# Altium integrated library FIT_TCM.IntLib: 99 symbols (part 1 of 3)
Pins are listed as number, name and electrical type; pins without a type are passive.

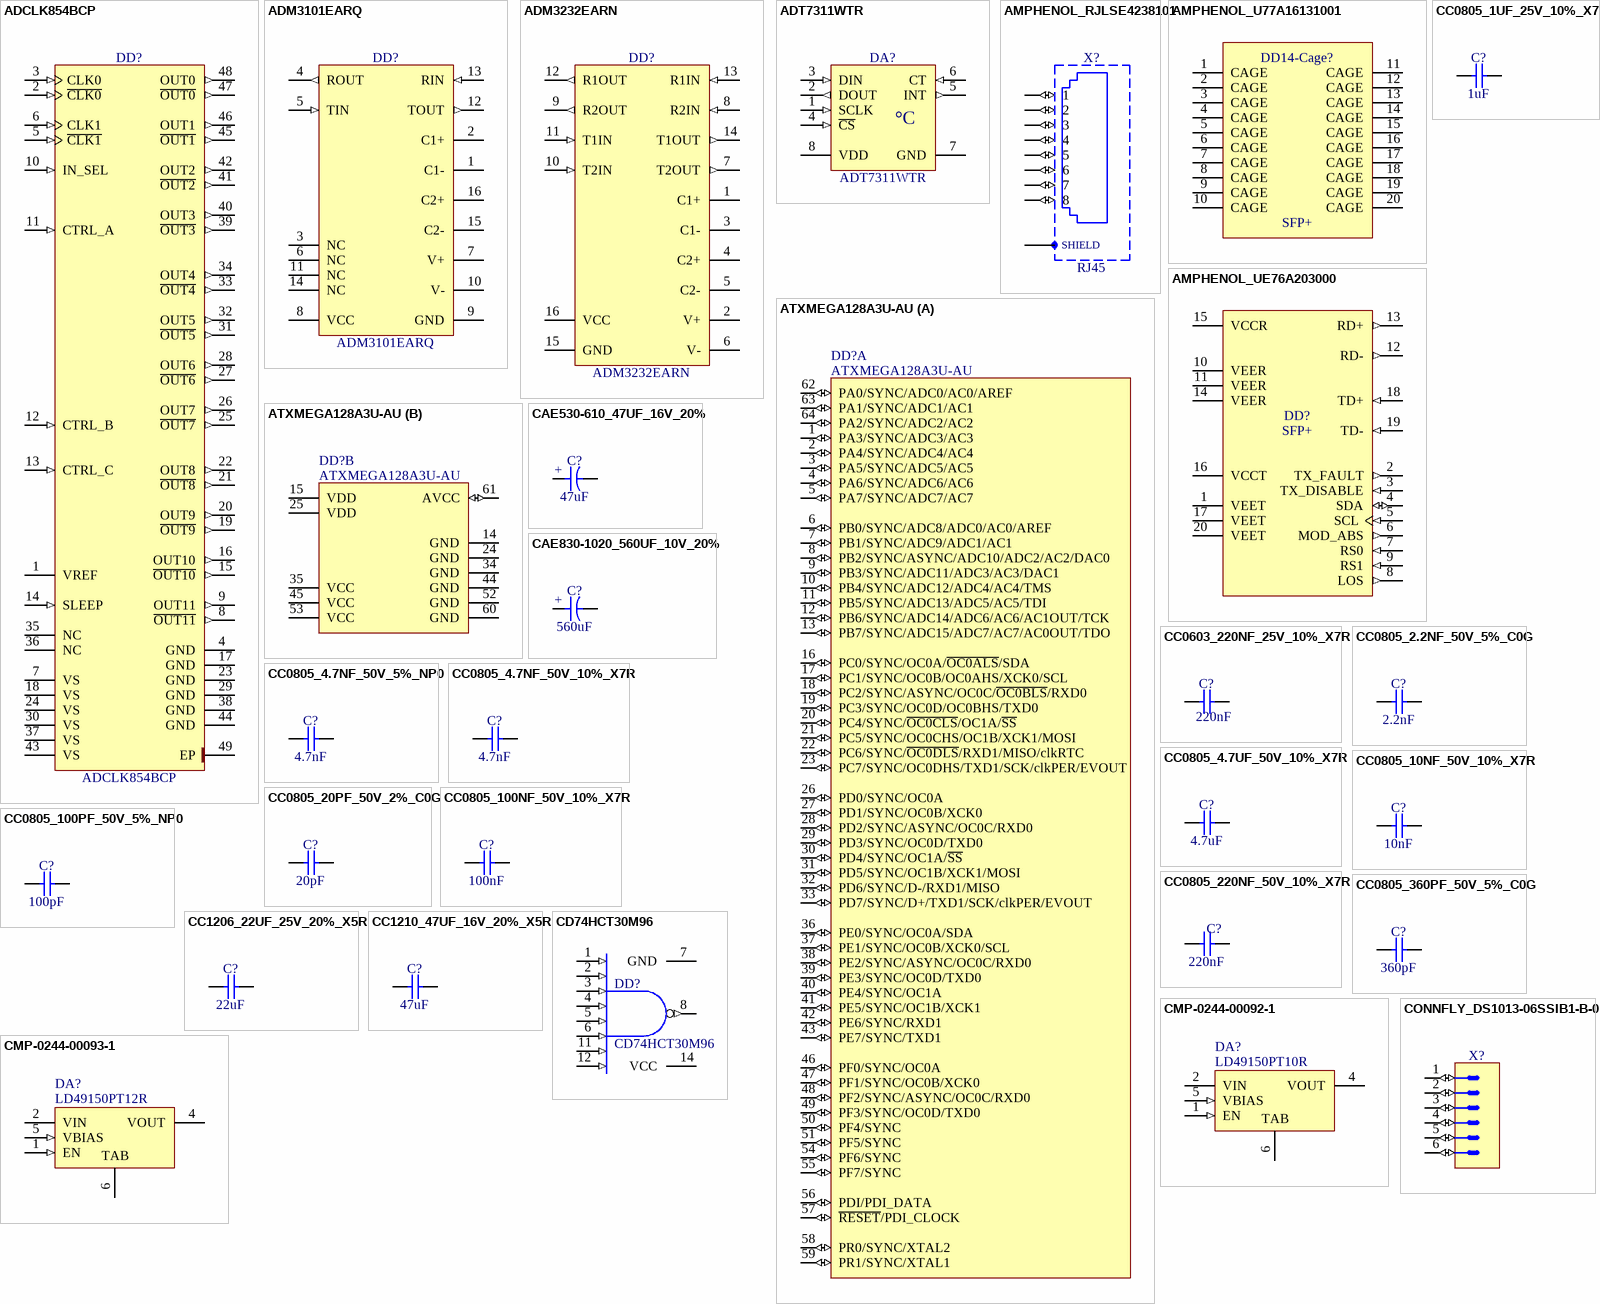
[diagram p0: symbols ADCLK854BCP to CONNFLY_DS1013-06SSIB1-B-0]

## ADCLK854BCP
designator DD?
1.8 V, 6 LVDS/12 CMOS Outputs Low Power Clock Fanout Buffer; Manufacturer: ANALOG DEVICES; PressFit: No; Bonding: No; Part Number: ADCLK854BCP; Component Kind: Standard; Component Type: Standard; Device: ADCLK854BCP; Footprint: QFN50P700X700X80-49N-S290; PackageDescription: QFN, 0.50mm Pitch, Square; 48 Pin, 7.00mm L X 7.00mm W X 0.80mm H body (w/Thermal Tab 2.9 x 2.9mm), IPC Medium Density; Part Description: 1.8 V, 6 LVDS/12 CMOS Outputs Low Power Clock Fanout Buffer; Manufacturer Part Number: ADCLK854BCP; Pin Count: 49; Case: QFN48; Mounted: Yes; Socket: No; SMD: Yes; Sense: No; ComponentHeight: 0.8mm; Author: CERN DEM HF; HelpURL: \\cern.ch\dfs\Applications\Altium\Datasheets\ADCLK854BCP.pdf; CreateDate: 24.05.2024; LatestRevisionDate: 24.05.2024
footprint QFN50P700X700X80-49N-S290
pins: 1 VREF (power), 2 ~{CLK0} (in), 3 CLK0 (in), 4 GND (power), 5 ~{CLK1} (in), 6 CLK1 (in), 7 VS (power), 8 ~{OUT11} (out), 9 OUT11 (out), 10 IN_SEL (in), 11 CTRL_A (in), 12 CTRL_B (in), 13 CTRL_C (in), 14 SLEEP (in), 15 ~{OUT10} (out), 16 OUT10 (out), 17 GND (power), 18 VS (power), 19 ~{OUT9} (out), 20 OUT9 (out), 21 ~{OUT8} (out), 22 OUT8 (out), 23 GND (power), 24 VS (power), 25 ~{OUT7} (out), 26 OUT7 (out), 27 ~{OUT6} (out), 28 OUT6 (out), 29 GND (power), 30 VS (power), 31 ~{OUT5} (out), 32 OUT5 (out), 33 ~{OUT4} (out), 34 OUT4 (out), 35 NC (power), 36 NC (power), 37 VS (power), 38 GND (power), 39 ~{OUT3} (out), 40 OUT3 (out), 41 ~{OUT2} (out), 42 OUT2 (out), 43 VS (power), 44 GND (power), 45 ~{OUT1} (out), 46 OUT1 (out), 47 ~{OUT0} (out), 48 OUT0 (out), 49 EP (power)

## ADM3101EARQ
designator DD?
±15 kV ESD Protected, 3.3 V Single-Channel RS-232 Line Driver/Receiver; Manufacturer: ANALOG DEVICES; PressFit: No; Bonding: No; Part Number: ADM3101EARQ; Component Kind: Standard; Component Type: Standard; Device: ADM3101EARQ; Footprint: SOP63P600X175-16N; PackageDescription: SOP, 0.635mm Pitch; 16 Pin, 3.9mm W X 4.895mm L X 1.75mm H body, IPC Medium Density; Part Description: ±15 kV ESD Protected, 3.3 V Single-Channel RS-232 Line Driver/Receiver; Manufacturer Part Number: ADM3101EARQ; Pin Count: 16; Case: SSOP16; Mounted: Yes; Socket: No; SMD: Yes; Sense: No; ComponentHeight: 1.75mm; Author: CERN DEM HF; HelpURL: \\cern.ch\dfs\Applications\Altium\Datasheets\ADM3101EARQ.pdf; CreateDate: 08.05.2024; LatestRevisionDate: 08.05.2024
footprint SOP63P600X175-16N
pins: 1 C1-, 2 C1+, 3 NC, 4 ROUT (out), 5 TIN (in), 6 NC (power), 7 V+ (power), 8 VCC (power), 9 GND (power), 10 V- (power), 11 NC (power), 12 TOUT (out), 13 RIN (in), 14 NC (power), 15 C2-, 16 C2+

## ADM3232EARN
designator DD?
±15 kV ESD Protected, 3.3 V, RS-232 Line Driver/Receiver; Manufacturer: ANALOG DEVICES; PressFit: No; Bonding: No; Part Number: ADM3232EARN; Component Kind: Standard; Component Type: Standard; Device: ADM3232EARN; Footprint: SOIC127P1032X265-16N; PackageDescription: SOIC, 1.27mm Pitch; 16 pin, 7.50mm W X 10.4mm L X 2.65mm H body, IPC Medium Density; Part Description: ±15 kV ESD Protected, 3.3 V, RS-232 Line Driver/Receiver; Manufacturer Part Number: ADM3232EARN; Pin Count: 16; Case: SOIC16; Mounted: Yes; Socket: No; SMD: Yes; Sense: No; ComponentHeight: 2.65mm; Author: CERN DEM HF; HelpURL: \\cern.ch\dfs\Applications\Altium\Datasheets\ADM3232EARN.pdf; CreateDate: 24.05.2024; LatestRevisionDate: 24.05.2024
footprint SOIC127P600X175-16N (SOIC 16, Pitch 1.27mm - Body 4x10mm, IPC Medium Density)
pins: 1 C1+, 2 V+ (power), 3 C1-, 4 C2+, 5 C2-, 6 V- (power), 7 T2OUT (out), 8 R2IN (in), 9 R2OUT (out), 10 T2IN (in), 11 T1IN (in), 12 R1OUT (out), 13 R1IN (in), 14 T1OUT (out), 15 GND (power), 16 VCC (power)

## ADT7311WTR
designator DA?
±0.5°C Accurate, 16-Bit Digital SPI Temperature Sensor; Manufacturer: ANALOG DEVICES; PressFit: No; Bonding: No; Part Number: ADT7311WTR; Component Kind: Standard; Component Type: Standard; Device: ADT7311WTR; Footprint: SOIC127P600X175-8N; PackageDescription: SOIC 8, Pitch 1.27mm - Body 4x5mm, IPC Medium Density; Part Description: ±0.5°C Accurate, 16-Bit Digital SPI Temperature Sensor; Manufacturer Part Number: ADT7311WTR; Pin Count: 8; Case: SOIC8; Mounted: Yes; Socket: No; SMD: Yes; Sense: No; ComponentHeight: 1.75mm; HelpURL: \\cern.ch\dfs\Applications\Altium\Datasheets\ADT7311WTR.pdf; Author: CERN DEM HF; CreateDate: 24.05.2024; LatestRevisionDate: 24.05.2024
footprint SOIC127P600X175-8N
pins: 1 SCLK (in), 2 DOUT (out), 3 DIN (in), 4 ~{CS} (in), 5 INT (out), 6 CT (in), 7 GND (power), 8 VDD (power)
text: °C

## AMPHENOL_RJLSE4238101
designator X?, comment RJ45
Connector RJ45 + Shield; Part Number: AMPHENOL_RJLSE4238101; Part Description: 1 Port RJ45 Connector, 8P8C ,  Right Angle Without Leds; Manufacturer: AMPHENOL; Manufacturer Part Number: RJLSE4238101; PressFit: No; Component Kind: Standard; Component Type: Standard; Footprint: AMPHENOL_RJLSE4238101; Pin Count: 9; Family: RJ45; Mounted: Yes; Socket: No; SMD: No; Sense: No; Status: None; ComponentHeight: 11.85mm; HelpURL: \\cern.ch\dfs\Applications\Altium\Datasheets\AMPHENOL_RJLSE4238101.pdf; Author: CERN DEM HF; CreateDate: 07.06.2024; LatestRevisionDate: 07.06.2024
footprint AMPHENOL_RJLSE4238101
pins: 1 (io), 2 (io), 3 (io), 4 (io), 5 (io), 6 (io), 7 (io), 8 (io), SHIELD

## AMPHENOL_U77A16131001
designator DD14-Cage?, comment SFP+
SFP+ 1x1 Cage (20Pins); Part Number: AMPHENOL_U77A16131001; Part Description: 1x1 Cage For Use with SFP+ Connector (Small Form-factor Pluggable); Manufacturer: AMPHENOL; Manufacturer Part Number: U77A16131001; PressFit: No; Component Kind: Standard; Component Type: Standard; Footprint: AMPHENOL_U77A16131001; Pin Count: 20; Family: SFP+; Mounted: Yes; Socket: No; SMD: No; Sense: No; Status: None; ComponentHeight: 9.7mm; HelpURL: \\cern.ch\dfs\Applications\Altium\Datasheets\AMPHENOL_U77A16131001.pdf; Author: CERN DEM BC; CreateDate: 03.09.2020; LatestRevisionDate: 03.09.2020
footprint AMPHENOL_U77A16131001
pins: 1 CAGE (power), 2 CAGE (power), 3 CAGE (power), 4 CAGE (power), 5 CAGE (power), 6 CAGE (power), 7 CAGE (power), 8 CAGE (power), 9 CAGE (power), 10 CAGE (power), 11 CAGE (power), 12 CAGE (power), 13 CAGE (power), 14 CAGE (power), 15 CAGE (power), 16 CAGE (power), 17 CAGE (power), 18 CAGE (power), 19 CAGE (power), 20 CAGE (power)

## AMPHENOL_UE76A203000
designator DD?, comment SFP+
20 Position SFP+ Connector (Small Form-factor Pluggable); Part Number: AMPHENOL_UE76A203000; Part Description: 20 Position, Pitch 0.8mm SFP+ High Speed Connector Receptacle (Small Form-factor Pluggable); Manufacturer: AMPHENOL; Manufacturer Part Number: UE76A203000; PressFit: No; Component Kind: Standard; Component Type: Standard; Footprint: AMPHENOL_UE76A203000; Pin Count: 20; Family: SFP+; Mounted: Yes; Socket: No; SMD: Yes; Sense: No; Status: None; ComponentHeight: 5.25mm; HelpURL: \\cern.ch\dfs\Applications\Altium\Datasheets\AMPHENOL_UE76A203000.pdf; Author: CERN DEM BC; CreateDate: 04.09.2020; LatestRevisionDate: 04.09.2020
footprint AMPHENOL_UE76A203000
pins: 1 VEET (power), 2 TX_FAULT (out), 3 TX_DISABLE (in), 4 SDA (io), 5 SCL (in), 6 MOD_ABS (out), 7 RS0 (in), 8 LOS (out), 9 RS1 (in), 10 VEER (power), 11 VEER (power), 12 RD- (out), 13 RD+ (out), 14 VEER (power), 15 VCCR (power), 16 VCCT (power), 17 VEET (power), 18 TD+ (in), 19 TD- (in), 20 VEET (power)

## ATXMEGA128A3U-AU
designator DD?
8/16-bit XMEGA A3BU 32MHz Microcontroller With 256KBytes of in-System Self-Programmable Flash; Part Description: 8/16-bit XMEGA A3U 32MHz Microcontroller with 128KBytes of in-System Self-Programmable Flash; Manufacturer: MICROCHIP TECHNOLOGY; PressFit: No; Bonding: No; Part Number: ATXMEGA128A3U-AU; Component Kind: Standard; Component Type: Standard; Device: ATXMEGA128A3U-AU; Footprint: QFP80P1600X1600X120-64N; PackageDescription: QFP, 0.80mm Pitch, Square; 64 Pin, 14.00mm L X 14.00mm W X 1.20mm H body, IPC Medium Density; Manufacturer Part Number: ATXMEGA128A3U-AU; Pin Count: 64; Case: QFP64; Mounted: Yes; Socket: No; SMD: Yes; Sense: No; ComponentHeight: 1.2mm; HelpURL: \\cern.ch\dfs\Applications\Altium\Datasheets\ATXMEGA128A3U-AU.pdf; Author: CERN DEM HF; CreateDate: 24.05.2024; LatestRevisionDate: 24.05.2024
footprint QFP80P1600X1600X120-64N
part A pins: 1 PA3/SYNC/ADC3/AC3 (io), 2 PA4/SYNC/ADC4/AC4 (io), 3 PA5/SYNC/ADC5/AC5 (io), 4 PA6/SYNC/ADC6/AC6 (io), 5 PA7/SYNC/ADC7/AC7 (io), 6 PB0/SYNC/ADC8/ADC0/AC0/AREF (io), 7 PB1/SYNC/ADC9/ADC1/AC1 (io), 8 PB2/SYNC/ASYNC/ADC10/ADC2/AC2/DAC0 (io), 9 PB3/SYNC/ADC11/ADC3/AC3/DAC1 (io), 10 PB4/SYNC/ADC12/ADC4/AC4/TMS (io), 11 PB5/SYNC/ADC13/ADC5/AC5/TDI (io), 12 PB6/SYNC/ADC14/ADC6/AC6/AC1OUT/TCK (io), 13 PB7/SYNC/ADC15/ADC7/AC7/AC0OUT/TDO (io), 16 PC0/SYNC/OC0A/~{OC0ALS}/SDA (io), 17 PC1/SYNC/OC0B/OC0AHS/XCK0/SCL (io), 18 PC2/SYNC/ASYNC/OC0C/~{OC0BLS}/RXD0 (io), 19 PC3/SYNC/OC0D/OC0BHS/TXD0 (io), 20 PC4/SYNC/~{OC0CLS}/OC1A/~{SS} (io), 21 PC5/SYNC/OC0CHS/OC1B/XCK1/MOSI (io), 22 PC6/SYNC/~{OC0DLS}/RXD1/MISO/clkRTC (io), 23 PC7/SYNC/OC0DHS/TXD1/SCK/clkPER/EVOUT (io), 26 PD0/SYNC/OC0A (io), 27 PD1/SYNC/OC0B/XCK0 (io), 28 PD2/SYNC/ASYNC/OC0C/RXD0 (io), 29 PD3/SYNC/OC0D/TXD0 (io), 30 PD4/SYNC/OC1A/~{SS} (io), 31 PD5/SYNC/OC1B/XCK1/MOSI (io), 32 PD6/SYNC/D-/RXD1/MISO (io), 33 PD7/SYNC/D+/TXD1/SCK/clkPER/EVOUT (io), 36 PE0/SYNC/OC0A/SDA (io), 37 PE1/SYNC/OC0B/XCK0/SCL (io), 38 PE2/SYNC/ASYNC/OC0C/RXD0 (io), 39 PE3/SYNC/OC0D/TXD0 (io), 40 PE4/SYNC/OC1A (io), 41 PE5/SYNC/OC1B/XCK1 (io), 42 PE6/SYNC/RXD1 (io), 43 PE7/SYNC/TXD1 (io), 46 PF0/SYNC/OC0A (io), 47 PF1/SYNC/OC0B/XCK0 (io), 48 PF2/SYNC/ASYNC/OC0C/RXD0 (io), 49 PF3/SYNC/OC0D/TXD0 (io), 50 PF4/SYNC (io), 51 PF5/SYNC (io), 54 PF6/SYNC (io), 55 PF7/SYNC (io), 56 PDI/PDI_DATA (io), 57 ~{RESET}/PDI_CLOCK (io), 58 PR0/SYNC/XTAL2 (io), 59 PR1/SYNC/XTAL1 (io), 62 PA0/SYNC/ADC0/AC0/AREF (io), 63 PA1/SYNC/ADC1/AC1 (io), 64 PA2/SYNC/ADC2/AC2 (io)
part B pins: 14 GND (power), 15 VDD (power), 24 GND (power), 25 VDD (power), 34 GND (power), 35 VCC (power), 44 GND (power), 45 VCC (power), 52 GND (power), 53 VCC (power), 60 GND (power), 61 AVCC (io)

## CAE530-610_47UF_16V_20%
designator C?, comment 47uF
Polarised capacitor; Part Number: CAE530-610_47UF_16V_20%; Part Description: Conductive Polymer Hybrid Aluminum Electrolytic Capacitor; Manufacturer: CHEMI-CON; Manufacturer Part Number: HHXD160ARA470ME61G; Voltage: 16V; Tolerance: ±20%; Component Kind: Standard; Component Type: Standard; Footprint: CAPAE530X610N; Pin Count: 2; Value: 47uF; Status: Not Recommended; Case: C; Mounted: Yes; Socket: No; SMD: Yes; Sense: No; ComponentHeight: 6.1mm; HelpURL: \\cern.ch\dfs\Applications\Altium\Datasheets\CAE_CHIMI-CON_HXD.pdf; Author: CERN DEM HF; CreateDate: 15.04.2024; LatestRevisionDate: 15.04.2024
footprint CAPAE530X610N
pins: 1, 2
text: +

## CAE830-1020_560UF_10V_20%
designator C?, comment 560uF
Polarised capacitor; Part Number: CAE830-1020_560UF_10V_20%; Part Description: Aluminum Electrolytic SMT Capacitor; Manufacturer: PANASONIC; Manufacturer Part Number: EEEFH1A561L; Voltage: 10V; Tolerance: ±20%; Component Kind: Standard; Component Type: Standard; Footprint: CAPAE830X1020N; Pin Count: 2; Value: 560uF; Status: Not Recommended; Case: F; Mounted: Yes; Socket: No; SMD: Yes; Sense: No; ComponentHeight: 10.2mm; HelpURL: \\cern.ch\dfs\Applications\Altium\Datasheets\CAE_PANASONIC_FH.pdf; Author: CERN DEM HF; CreateDate: 24.05.2024; LatestRevisionDate: 24.05.2024
footprint CAPAE830X1020N
pins: 1, 2
text: +

## CC0603_220NF_25V_10%_X7R
designator C?, comment 220nF
Non-polarised capacitor; Part Number: CC0603_220NF_25V_10%_X7R; Part Description: SMD Multilayer Chip Ceramic Capacitor; Manufacturer: GENERIC; Manufacturer1 Part Number: C0603C224K3RACTU; Voltage: 25V; TC: X7R; Tolerance: ±10%; Component Kind: Standard; Component Type: Standard; Footprint: CAPC1608X87N; Pin Count: 2; Value: 220nF; Status: Preferred; Manufacturer Part Number: CC0603_220NF_25V_10%_X7R; Case: 0603; Mounted: Yes; Socket: No; SMD: Yes; Sense: No; Manufacturer1 Example: KEMET; Manufacturer1 ComponentHeight: 0.87mm; HelpURL: \\cern.ch\dfs\Applications\Altium\Datasheets\CC0603_X7R_KEMET.pdf; Author: CERN DEM JLC; CreateDate: 29.10.2014; LatestRevisionDate: 29.10.2014
footprint CAPC1608X87N
pins: 1, 2

## CC0805_1UF_25V_10%_X7R
designator C?, comment 1uF
Non-polarised capacitor; Part Number: CC0805_1UF_25V_10%_X7R; Part Description: SMD Multilayer Chip Ceramic Capacitor; Manufacturer: GENERIC; Manufacturer1 Part Number: C0805C105K3RAC; Voltage: 25V; TC: X7R; Tolerance: ±10%; Component Kind: Standard; Component Type: Standard; Footprint: CAPC2012X140N; Pin Count: 2; Value: 1uF; Status: Preferred; Manufacturer Part Number: CC0805_1UF_25V_10%_X7R; Case: 0805; Mounted: Yes; Socket: No; SMD: Yes; Sense: No; Manufacturer1 Example: KEMET; Manufacturer1 ComponentHeight: 1.4mm; HelpURL: \\cern.ch\dfs\Applications\Altium\Datasheets\CC0805_X7R_KEMET.pdf; Author: CERN DEM JLC; CreateDate: 23.03.2009; LatestRevisionDate: 23.03.2009
footprint CAPC2012X140N
pins: 1, 2

## CC0805_2.2NF_50V_5%_C0G
designator C?, comment 2.2nF
Non-polarised capacitor; Part Number: CC0805_2.2NF_50V_5%_C0G; Part Description: SMD Multilayer Chip Ceramic Capacitor; Manufacturer: GENERIC; Manufacturer1 Part Number: C0805C222J5GACTU; Voltage: 50V; TC: C0G/NP0; Tolerance: ±5%; Component Kind: Standard; Component Type: Standard; Footprint: CAPC2013X100N; Pin Count: 2; Value: 2.2nF; Status: None; Manufacturer Part Number: CC0805_2.2NF_50V_5%_C0G; Case: 0805; Mounted: Yes; Socket: No; SMD: Yes; Sense: No; Manufacturer1 Example: KEMET; Manufacturer1 ComponentHeight: 0.88mm; HelpURL: \\cern.ch\dfs\Applications\Altium\Datasheets\CC0805_C0G_KEMET_(Commercial Grade).pdf; Author: CERN DEM MR; CreateDate: 26.01.2016; LatestRevisionDate: 26.01.2016
footprint CAPC2013X100N
pins: 1, 2

## CC0805_4.7NF_50V_5%_NP0
designator C?, comment 4.7nF
Non-polarised capacitor; Part Number: CC0805_4.7NF_50V_5%_NP0; Part Description: SMD Multilayer Chip Ceramic Capacitor; Manufacturer: GENERIC; Manufacturer1 Part Number: GRM2195C1H472JA01; Voltage: 50V; TC: C0G/NP0; Tolerance: ±5%; Component Kind: Standard; Component Type: Standard; Footprint: CAPC2012X95N; Pin Count: 2; Value: 4.7nF; Status: None; Manufacturer Part Number: CC0805_4.7NF_50V_5%_NP0; Case: 0805; Mounted: Yes; Socket: No; SMD: Yes; Sense: No; Manufacturer1 Example: MURATA; Manufacturer1 ComponentHeight: 0.95mm; HelpURL: \\cern.ch\dfs\Applications\Altium\Datasheets\CC0805_MURATA_GRM2195C1H472JA01.pdf; Author: CERN DEM MR; CreateDate: 30.03.2016; LatestRevisionDate: 30.03.2016
footprint CAPC2012X95N
pins: 1, 2

## CC0805_4.7NF_50V_10%_X7R
designator C?, comment 4.7nF
Non-polarised capacitor; Part Number: CC0805_4.7NF_50V_10%_X7R; Part Description: SMD Multilayer Chip Ceramic Capacitor; Manufacturer: GENERIC; Manufacturer1 Part Number: 223858615632; Voltage: 50V; TC: X7R; Tolerance: ±10%; Component Kind: Standard; Component Type: Standard; Footprint: CAPC2012X135N; Pin Count: 2; Value: 4.7nF; Status: Preferred; Manufacturer Part Number: CC0805_4.7NF_50V_10%_X7R; Case: 0805; Mounted: Yes; Socket: No; SMD: Yes; Sense: No; Manufacturer1 Example: PHYCOMP; Manufacturer1 ComponentHeight: 0.94mm; HelpURL: \\cern.ch\dfs\Applications\Altium\Datasheets\CC0805_X7R_PHYCOMP.pdf; Author: CERN DEM JLC; CreateDate: 03.12.2007; LatestRevisionDate: 03.12.2007
footprint CAPC2012X135N
pins: 1, 2

## CC0805_4.7UF_50V_10%_X7R
designator C?, comment 4.7uF
Non-polarised capacitor; Part Number: CC0805_4.7UF_50V_10%_X7R; Part Description: SMD Multilayer Chip Ceramic Capacitor; Manufacturer: GENERIC; Manufacturer1 Part Number: C2012X7R1H475K125; Voltage: 50V; TC: X7R; Tolerance: ±10%; Component Kind: Standard; Component Type: Standard; Footprint: CAPC2012X145N; Pin Count: 2; Value: 4.7uF; Status: Preferred; Manufacturer Part Number: CC0805_4.7UF_50V_10%_X7R; Case: 0805; Mounted: Yes; Socket: No; SMD: Yes; Sense: No; Manufacturer1 Example: TDK; Manufacturer1 ComponentHeight: 1.45mm; HelpURL: \\cern.ch\dfs\Applications\Altium\Datasheets\CC0805_X7R_TDK_C.pdf; Author: CERN DEM JMW; CreateDate: 30.07.2021; LatestRevisionDate: 30.07.2021
footprint CAPC2012X145N
pins: 1, 2

## CC0805_10NF_50V_10%_X7R
designator C?, comment 10nF
Non-polarised capacitor; Part Number: CC0805_10NF_50V_10%_X7R; Part Description: SMD Multilayer Chip Ceramic Capacitor; Manufacturer: GENERIC; Manufacturer1 Part Number: C0805C103K5RACTU; Voltage: 50V; TC: X7R; Tolerance: ±10%; Component Kind: Standard; Component Type: Standard; Footprint: CAPC2012X135N; Pin Count: 2; Value: 10nF; Status: Preferred; Manufacturer Part Number: CC0805_10NF_50V_10%_X7R; Case: 0805; Mounted: Yes; Socket: No; SMD: Yes; Sense: No; Manufacturer1 Example: KEMET; Manufacturer1 ComponentHeight: 0.88mm; HelpURL: \\cern.ch\dfs\Applications\Altium\Datasheets\CC0805_X7R_KEMET.pdf; Author: CERN DEM JLC; CreateDate: 03.12.2007; LatestRevisionDate: 22.04.2015
footprint CAPC2012X135N
pins: 1, 2

## CC0805_20PF_50V_2%_C0G
designator C?, comment 20pF
Non-polarised capacitor; Part Number: CC0805_20PF_50V_2%_C0G; Part Description: SMD Multilayer Chip Ceramic Capacitor; Manufacturer: GENERIC; Manufacturer1 Part Number: CC0805GRNPO9BN200; Voltage: 50V; TC: C0G/NP0; Tolerance: ±2%; Component Kind: Standard; Component Type: Standard; Footprint: CAPC2012X135N; Pin Count: 2; Value: 20pF; Status: None; Manufacturer Part Number: CC0805_20PF_50V_2%_C0G; Case: 0805; Mounted: Yes; Socket: No; SMD: Yes; Sense: No; Manufacturer1 Example: YAGEO PHYCOMP; Manufacturer1 ComponentHeight: 1.45mm; HelpURL: \\cern.ch\dfs\Applications\Altium\Datasheets\CC0805_NP0_YAGEO.pdf; Author: CERN DEM HF; CreateDate: 07.05.2024; LatestRevisionDate: 07.05.2024
footprint CAPC2012X135N
pins: 1, 2

## CC0805_100NF_50V_10%_X7R
designator C?, comment 100nF
Non-polarised capacitor; Part Number: CC0805_100NF_50V_10%_X7R; Part Description: SMD Multilayer Chip Ceramic Capacitor; Manufacturer: GENERIC; Manufacturer1 Part Number: C2012X7R1H104K085; Voltage: 50V; TC: X7R; Tolerance: ±10%; Component Kind: Standard; Component Type: Standard; Footprint: CAPC2012X135N; Pin Count: 2; Value: 100nF; Status: None; Manufacturer Part Number: CC0805_100NF_50V_10%_X7R; Case: 0805; Mounted: Yes; Socket: No; SMD: Yes; Sense: No; Manufacturer1 Example: TDK; Manufacturer1 ComponentHeight: 1mm; HelpURL: \\cern.ch\dfs\Applications\Altium\Datasheets\CC0805_X7R_TDK_C.pdf; Author: CERN DEM JLC; CreateDate: 03.12.2007; LatestRevisionDate: 22.04.2015
footprint CAPC2012X135N
pins: 1, 2

## CC0805_100PF_50V_5%_NP0
designator C?, comment 100pF
Non-polarised capacitor; Part Number: CC0805_100PF_50V_5%_NP0; Part Description: SMD Multilayer Chip Ceramic Capacitor; Manufacturer: GENERIC; Manufacturer1 Part Number: 223886115101; Voltage: 50V; TC: C0G/NP0; Tolerance: ±5%; Component Kind: Standard; Component Type: Standard; Footprint: CAPC2012X135N; Pin Count: 2; Value: 100pF; Status: Preferred; Manufacturer Part Number: CC0805_100PF_50V_5%_NP0; Case: 0805; Mounted: Yes; Socket: No; SMD: Yes; Sense: No; Manufacturer1 Example: PHYCOMP; Manufacturer1 ComponentHeight: 1.35mm; HelpURL: \\cern.ch\dfs\Applications\Altium\Datasheets\CC0805_NP0_PHYCOMP.pdf; Author: CERN DEM JLC; CreateDate: 03.12.2007; LatestRevisionDate: 03.12.2007
footprint CAPC2012X135N
pins: 1, 2

## CC0805_220NF_50V_10%_X7R
designator C?, comment 220nF
Non-polarised capacitor; Part Number: CC0805_220NF_50V_10%_X7R; Part Description: SMD Multilayer Chip Ceramic Capacitor; Manufacturer: GENERIC; Manufacturer1 Part Number: GRM21BR71H224KA01L; Voltage: 50V; TC: X7R; Tolerance: ±10%; Component Kind: Standard; Component Type: Standard; Footprint: CAPC2012X135N; Pin Count: 2; Value: 220nF; Status: Preferred; Manufacturer Part Number: CC0805_220NF_50V_10%_X7R; Case: 0805; Mounted: Yes; Socket: No; SMD: Yes; Sense: No; Manufacturer1 Example: MURATA; Manufacturer1 ComponentHeight: 1.35mm; HelpURL: \\cern.ch\dfs\Applications\Altium\Datasheets\CC0805_X7R_MURATA.pdf; Author: CERN DEM JLC; CreateDate: 03.12.2007; LatestRevisionDate: 03.12.2007
footprint CAPC2012X135N
pins: 1, 2

## CC0805_360PF_50V_5%_C0G
designator C?, comment 360pF
Non-polarised capacitor; Part Number: CC0805_360PF_50V_5%_C0G; Part Description: SMD Multilayer Chip Ceramic Capacitor; Manufacturer: GENERIC; Manufacturer1 Part Number: CC0805JRNPO9BN361; Voltage: 50V; TC: NP0; Tolerance: ±5%; Component Kind: Standard; Component Type: Standard; Footprint: CAPC2013X145N; Pin Count: 2; Value: 360pF; Status: None; Manufacturer Part Number: CC0805_360PF_50V_5%_C0G; Case: 0805; Mounted: Yes; Socket: No; SMD: Yes; Sense: No; Manufacturer1 Example: YAGEO PHYCOMP; Manufacturer1 ComponentHeight: 1.45mm; HelpURL: \\cern.ch\dfs\Applications\Altium\Datasheets\CC0805_NP0_YAGEO.pdf; Author: CERN DEM HF; CreateDate: 30.05.2024; LatestRevisionDate: 30.05.2024
footprint CAPC2013X145N
pins: 1, 2

## CC1206_22UF_25V_20%_X5R
designator C?, comment 22uF
Non-polarised capacitor; Part Number: CC1206_22UF_25V_20%_X5R; Part Description: SMD Multilayer Chip Ceramic Capacitor; Manufacturer: GENERIC; Manufacturer1 Part Number: C3216X5R1E226M160; Voltage: 25V; TC: X5R; Tolerance: ±20%; Component Kind: Standard; Component Type: Standard; Footprint: CAPC3216X180N; Pin Count: 2; Value: 22uF; Status: None; Manufacturer Part Number: CC1206_22UF_25V_20%_X5R; Case: 1206; Mounted: Yes; Socket: No; SMD: Yes; Sense: No; Manufacturer1 Example: TDK; Manufacturer1 ComponentHeight: 1.8mm; HelpURL: \\cern.ch\dfs\Applications\Altium\Datasheets\CC1206_X5R_TDK_C.pdf; Author: CERN DEM WB; CreateDate: 25.07.2018; LatestRevisionDate: 25.07.2018
footprint CAPC3216X180N
pins: 1, 2

## CC1210_47UF_16V_20%_X5R
designator C?, comment 47uF
Non-polarised capacitor; Part Number: CC1210_47UF_16V_20%_X5R; Part Description: SMD Multilayer Chip Ceramic Capacitor; Manufacturer: GENERIC; Manufacturer1 Part Number: EMK325BJ476MM-T; Voltage: 16V; TC: X5R; Tolerance: ±20%; Component Kind: Standard; Component Type: Standard; Footprint: CAPC3225X270N; Pin Count: 2; Value: 47uF; Status: None; Manufacturer Part Number: CC1210_47UF_16V_20%_X5R; Case: 1210; Mounted: Yes; Socket: No; SMD: Yes; Sense: No; Manufacturer1 Example: TAIYO YUDEN; Manufacturer1 ComponentHeight: 2.7mm; HelpURL: \\cern.ch\dfs\Applications\Altium\Datasheets\CC1210_X5R_TAIYO-YUDEN_HIGH-VALUE.pdf; Author: CERN DEM MR; CreateDate: 03.02.2016; LatestRevisionDate: 03.02.2016
footprint CAPC3225X270N
pins: 1, 2

## CD74HCT30M96
designator DD?
8-Input NAND Gate; Manufacturer: TEXAS INSTRUMENTS; PressFit: No; Bonding: No; Part Number: CD74HCT30M96; Component Kind: Standard; Component Type: Standard; Device: CD74HCT30M96; Footprint: SOIC127P600X175-14N; PackageDescription: SOIC 14, Pitch 1.27mm - Body 4x8.75mm, IPC Medium Density; Part Description: 8-Input NAND Gate; Manufacturer Part Number: CD74HCT30M96; Pin Count: 14; Case: SOIC14; Mounted: Yes; Socket: Yes; SMD: Yes; Sense: No; ComponentHeight: 1.75mm; Author: CERN DEM HF; HelpURL: \\cern.ch\dfs\Applications\Altium\Datasheets\CD74HCT30M96.pdf; CreateDate: 31.05.2024; LatestRevisionDate: 31.05.2024
footprint SOIC127P600X175-14N
pins: 1 A (in), 2 B (in), 3 C (in), 4 D (in), 5 E (in), 6 F (in), 7 GND (power), 8 Y (out), 11 G (in), 12 H (in), 14 VCC (power)

## CMP-0244-00092-1
designator DA?, comment LD49150PT10R
1.5 Very Low Drop Voltage Regulator, 1.0V, 5-Pin PPAK, Tape and Reel; ComponentLink1URL: http://www.st.com; ComponentLink2Description: Datasheet; PackageVersion: 1/06/2004; DatasheetVersion: 1/06/2010; PackageDescription: 5-Pin Transistor Outline Package 1.27 mm Pitch, 9.7 mm Lead Span; ComponentLink1Description: Manufacturer URL; ComponentLink2URL: http://www.st.com/internet/com/TECHNICAL_RESOURCES/TECHNICAL_LITERATURE/DATASHEET/CD00157522.pdf; PackageReference: PPAK
footprint PPAK_N (D-PAK, 6-Leads, Body 6.1x6.5mm, Pitch 1.27mm, Lead Span 9.7mm, IPC Medium Density)
footprint PPAK_L (D-PAK, 6-Leads, Body 6.1x6.5mm, Pitch 1.27mm, Lead Span 9.7mm, IPC High Density)
footprint PPAK_M (D-PAK, 6-Leads, Body 6.1x6.5mm, Pitch 1.27mm, Lead Span 9.7mm, IPC Low Density)
pins: 1 EN (in), 2 VIN (power), 4 VOUT (power), 5 VBIAS (in), 6 TAB (power)

## CMP-0244-00093-1
designator DA?, comment LD49150PT12R
1.5 Very Low Drop Voltage Regulator, 1.2V, 5-Pin PPAK, Tape and Reel; ComponentLink2URL: http://www.st.com/internet/com/TECHNICAL_RESOURCES/TECHNICAL_LITERATURE/DATASHEET/CD00157522.pdf; DatasheetVersion: 1/06/2010; ComponentLink1Description: Manufacturer URL; ComponentLink2Description: Datasheet; ComponentLink1URL: http://www.st.com; PackageDescription: 5-Pin Transistor Outline Package 1.27 mm Pitch, 9.7 mm Lead Span; PackageReference: PPAK; PackageVersion: 1/06/2004
footprint PPAK_M (D-PAK, 6-Leads, Body 6.1x6.5mm, Pitch 1.27mm, Lead Span 9.7mm, IPC Low Density)
footprint PPAK_N (D-PAK, 6-Leads, Body 6.1x6.5mm, Pitch 1.27mm, Lead Span 9.7mm, IPC Medium Density)
footprint PPAK_L (D-PAK, 6-Leads, Body 6.1x6.5mm, Pitch 1.27mm, Lead Span 9.7mm, IPC High Density)
pins: 1 EN (in), 2 VIN (power), 4 VOUT (power), 5 VBIAS (in), 6 TAB (power)

## CONNFLY_DS1013-06SSIB1-B-0
designator X?
Connector 6 Male; Part Number: CONNFLY_DS1013-06SSIB1-B-0; Part Description: 6 Contacts, 2.54mm Box Header V/T,R/A & SMT Type; Manufacturer: CONNFLY; Manufacturer Part Number: DS1013-06SSIB1-B-0; PressFit: No; Component Kind: Standard; Component Type: Standard; Footprint: CONNFLY_DS1013-06SSIB1-B-0; Pin Count: 6; Mounted: Yes; Socket: No; SMD: No; Sense: No; Status: None; ComponentHeight: 9.1mm; HelpURL: \\cern.ch\dfs\Applications\Altium\Datasheets\CONNFLY_DS1013.pdf; Author: CERN DEM HF; CreateDate: 30.05.2024; LatestRevisionDate: 30.05.2024
footprint CONNFLY_DS1013-06SSIB1-B-0
pins: 1 (io), 2 (io), 3 (io), 4 (io), 5 (io), 6 (io)
1 alternate drawing of the same symbol

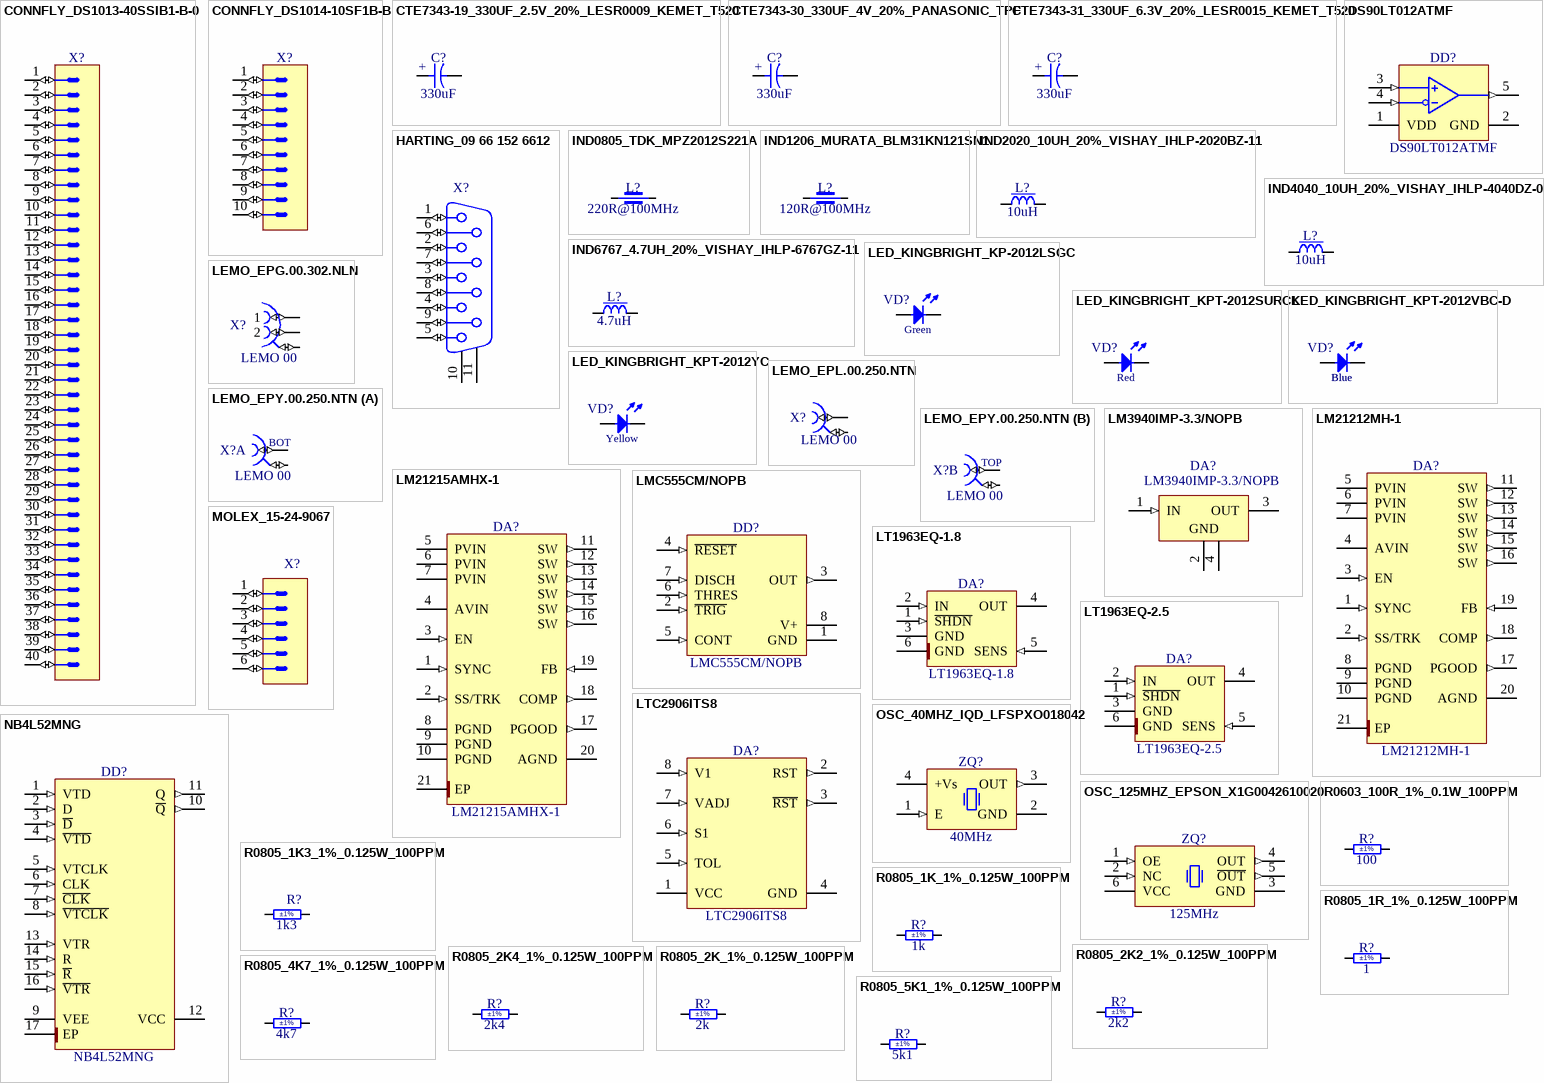
[diagram p1: symbols CONNFLY_DS1013-40SSIB1-B-0 to R0805_5K1_1%_0.125W_100PPM]

## CONNFLY_DS1013-40SSIB1-B-0
designator X?
Connector 40 Male; Part Number: CONNFLY_DS1013-40SSIB1-B-0; Part Description: 40 Contacts, 2.54mm Box Header V/T,R/A & SMT Type; Manufacturer: CONNFLY; Manufacturer Part Number: DS1013-40SSIB1-B-0; PressFit: No; Component Kind: Standard; Component Type: Standard; Footprint: CONNFLY_DS1013-40SSIB1-B-0; Pin Count: 40; Mounted: Yes; Socket: No; SMD: No; Sense: No; Status: None; ComponentHeight: 9.1mm; HelpURL: \\cern.ch\dfs\Applications\Altium\Datasheets\CONNFLY_DS1013.pdf; Author: CERN DEM HF; CreateDate: 30.05.2024; LatestRevisionDate: 30.05.2024
footprint CONNFLY_DS1013-40SSIB1-B-0
pins: 1 (io), 2 (io), 3 (io), 4 (io), 5 (io), 6 (io), 7 (io), 8 (io), 9 (io), 10 (io), 11 (io), 12 (io), 13 (io), 14 (io), 15 (io), 16 (io), 17 (io), 18 (io), 19 (io), 20 (io), 21 (io), 22 (io), 23 (io), 24 (io), 25 (io), 26 (io), 27 (io), 28 (io), 29 (io), 30 (io), 31 (io), 32 (io), 33 (io), 34 (io), 35 (io), 36 (io), 37 (io), 38 (io), 39 (io), 40 (io)
1 alternate drawing of the same symbol

## CONNFLY_DS1014-10SF1B-B
designator X?
Connector 10 Male; Part Number: CONNFLY_DS1014-10SF1B-B; Part Description: 10 Contacts, 2.00mm Box Header V/T,R/A & SMT Type; Manufacturer: CONNFLY; Manufacturer Part Number: DS1014-10SF1B-B; PressFit: No; Component Kind: Standard; Component Type: Standard; Footprint: CONNFLY_DS1014-10SF1B-B; Pin Count: 10; Mounted: Yes; Socket: No; SMD: No; Sense: No; Status: None; ComponentHeight: 5.6mm; HelpURL: \\cern.ch\dfs\Applications\Altium\Datasheets\CONNFLY_DS1014-10SF1B-B.pdf; Author: CERN DEM HF; CreateDate: 29.05.2024; LatestRevisionDate: 29.05.2024
footprint CONNFLY_DS1014-10SF1B-B
pins: 1 (io), 2 (io), 3 (io), 4 (io), 5 (io), 6 (io), 7 (io), 8 (io), 9 (io), 10 (io)
1 alternate drawing of the same symbol

## CTE7343-19_330UF_2.5V_20%_LESR0009_KEMET_T520
designator C?, comment 330uF
Polarised capacitor; Part Number: CTE7343-19_330UF_2.5V_20%_LESR0009_KEMET_T520; Part Description: Low ESR 0R009 Tantalum Chip Capacitor; Manufacturer: KEMET; Manufacturer Part Number: T520V337M2R5ATE009; Voltage: 2.5V; Tolerance: ±20%; Component Kind: Standard; Component Type: Standard; Footprint: CAPMP7343X190N; Pin Count: 2; Value: 330uF; Status: None; Case: V; Mounted: Yes; Socket: No; SMD: Yes; Sense: No; ComponentHeight: 1.9mm; HelpURL: \\cern.ch\dfs\Applications\Altium\Datasheets\CTE-LESR_KEMET_T520.pdf; Author: CERN DEM HF; CreateDate: 30.05.2024; LatestRevisionDate: 30.05.2024
footprint CAPMP7343X190N
pins: 1, 2
text: +

## CTE7343-30_330UF_4V_20%_PANASONIC_TPF
designator C?, comment 330uF
Polarised capacitor; Part Number: CTE7343-30_330UF_4V_20%_PANASONIC_TPF; Part Description: ESR 0R009 Tantalum Chip Capacitor; Manufacturer: PANASONIC; Manufacturer Part Number: 4TPF330M9L; Voltage: 4V; Tolerance: ±20%; Component Kind: Standard; Component Type: Standard; Footprint: CAPMP7343X300N; Pin Count: 2; Value: 330uF; Status: None; Mounted: Yes; Socket: No; SMD: Yes; Sense: No; ComponentHeight: 3mm; HelpURL: \\cern.ch\dfs\Applications\Altium\Datasheets\CTE_PANASONIC_TPF.pdf; Author: CERN DEM HF; CreateDate: 30.05.2024; LatestRevisionDate: 30.05.2024
footprint CAPMP7343X300N
pins: 1, 2
text: +

## CTE7343-31_330UF_6.3V_20%_LESR0015_KEMET_T520
designator C?, comment 330uF
Polarised capacitor; Part Number: CTE7343-31_330UF_6.3V_20%_LESR0015_KEMET_T520; Part Description: Low ESR 0R015 Tantalum Chip Capacitor; Manufacturer: KEMET; Manufacturer Part Number: T520D337M006ATE015; Voltage: 6.3V; Tolerance: ±20%; Component Kind: Standard; Component Type: Standard; Footprint: CAPMP7343X310N; Pin Count: 2; Value: 330uF; Status: None; Case: D; Mounted: Yes; Socket: No; SMD: Yes; Sense: No; ComponentHeight: 3.1mm; HelpURL: \\cern.ch\dfs\Applications\Altium\Datasheets\CTE-LESR_KEMET_T520.pdf; Author: CERN DEM JLC; CreateDate: 11.01.2012; LatestRevisionDate: 11.01.2012
footprint CAPMP7343X310N
pins: 1, 2
text: +

## DS90LT012ATMF
designator DD?
3V LVDS Single CMOS Differential Line Receiver; Manufacturer: TEXAS INSTRUMENTS; PressFit: No; Bonding: No; Part Number: DS90LT012ATMF; Component Kind: Standard; Component Type: Standard; Device: DS90LT012ATMF; Footprint: SOT95P280X145-5N; PackageDescription: SOT, 0.95mm Pitch; 5 Pin, 1.60mm W X 2.90mm L X 1.45mm H body, IPC Medium Density; Part Description: 3V LVDS Single CMOS Differential Line Receiver; Manufacturer Part Number: DS90LT012ATMF; Pin Count: 5; Case: SOT23-5; Mounted: Yes; Socket: No; SMD: Yes; Sense: No; ComponentHeight: 1.45mm; Author: CERN DEM HF; HelpURL: \\cern.ch\dfs\Applications\Altium\Datasheets\DS90LT012ATMF.pdf; CreateDate: 08.05.2024; LatestRevisionDate: 08.05.2024
footprint SOT95P280X145-5N
pins: 1 VDD (power), 2 GND (power), 3 IN+ (in), 4 IN- (in), 5 TTLOUT (out)

## HARTING_09 66 152 6612
designator X?, comment D-Sub 9F  (value not drawn)
Connector D-sub 9 Female; Part Number: HARTING_09 66 152 6612; Part Description: Right Angled D-Sub 9 Female Contacts with Grounding Board Locks And UNC 4-40 Flange Thread; Manufacturer: HARTING; Manufacturer Part Number: 09 66 152 6612; PressFit: No; Component Kind: Standard; Component Type: Standard; Footprint: HARTING_09 66 152 6612; Pin Count: 11; Family: D-Sub 9F; Mounted: Yes; Socket: No; SMD: No; Sense: No; Status: None; ComponentHeight: 13.6mm; HelpURL: \\cern.ch\dfs\Applications\Altium\Datasheets\HARTING_09 66 152 6612.pdf; Author: CERN DEM JLC; CreateDate: 16.12.2010; LatestRevisionDate: 08.04.2013
footprint HARTING_09 66 152 6612
pins: 1 (io), 2 (io), 3 (io), 4 (io), 5 (io), 6 (io), 7 (io), 8 (io), 9 (io), 10, 11
1 alternate drawing of the same symbol

## IND0805_TDK_MPZ2012S221A
designator L?, comment 220R@100MHz
Part Number: IND0805_TDK_MPZ2012S221A; Part Description: SMT Chip Bead for General Power Line (MPZ Series); Manufacturer: TDK; Manufacturer Part Number: MPZ2012S221A; Power: 3A; Resistance: 0.04R; Tolerance: ±25%; Component Kind: Standard; Component Type: Standard; Footprint: INDC2012X105N; Pin Count: 2; Value: 220R@100MHz; Case: 0805; Mounted: Yes; Socket: No; SMD: Yes; Sense: No; ComponentHeight: 1.05mm; HelpURL: \\cern.ch\dfs\Applications\Altium\Datasheets\IND0805_TDK_MPZ2012.pdf; Author: CERN DEM HF; CreateDate: 04.10.2021; LatestRevisionDate: 04.10.2021
footprint INDC2012X105N
pins: 1, 2
1 alternate drawing of the same symbol

## IND1206_MURATA_BLM31KN121SN1
designator L?, comment 120R@100MHz
Part Number: IND1206_MURATA_BLM31KN121SN1; Part Description: SMD Chip Ferrite Bead, BLM31KN_SN Series; Manufacturer: MURATA; Manufacturer Part Number: BLM31KN121SN1; Power: 6A; Resistance: 0.009R; Tolerance: ±25%; Component Kind: Standard; Component Type: Standard; Footprint: IND_MURATA_BLM31KN1; Pin Count: 2; Value: 120R@100MHz; Case: 1206; Mounted: Yes; Socket: No; SMD: Yes; Sense: No; ComponentHeight: 1.8mm; HelpURL: \\cern.ch\dfs\Applications\Altium\Datasheets\IND1206_MURATA_ BLM31KN_SN.pdf; Author: CERN DEM HF; CreateDate: 05.01.2022; LatestRevisionDate: 05.01.2022
footprint IND_MURATA_BLM31KN
pins: 1, 2
1 alternate drawing of the same symbol

## IND2020_10UH_20%_VISHAY_IHLP-2020BZ-11
designator L?, comment 10uH
Inductor With Core; Part Number: IND2020_10UH_20%_VISHAY_IHLP-2020BZ-11; Part Description: Low Profile, High Current IHLP® Inductor; Manufacturer: VISHAY DALE; Manufacturer Part Number: IHLP2020BZER100M11; Power: 2.2A; Resistance: 0.1828R; Tolerance: ±20%; Component Kind: Standard; Component Type: Standard; Footprint: INDM5552X200N; Pin Count: 2; Value: 10uH; Case: 2020; Mounted: Yes; Socket: No; SMD: Yes; Sense: No; ComponentHeight: 2mm; HelpURL: \\cern.ch\dfs\Applications\Altium\Datasheets\IND2020_VISHAY_IHLP2020BZ-11.pdf; Author: CERN DEM HF; CreateDate: 31.05.2024; LatestRevisionDate: 31.05.2024
footprint INDM5552X200N
pins: 1, 2

## IND4040_10UH_20%_VISHAY_IHLP-4040DZ-01
designator L?, comment 10uH
Inductor With Core; Part Number: IND4040_10UH_20%_VISHAY_IHLP-4040DZ-01; Part Description: IHLP® Commercial Inductor, Low DCR Series; Manufacturer: VISHAY DALE; Manufacturer Part Number: IHLP4040DZER100M01; Power: 6.8A; Resistance: 0.0332R; Tolerance: ±20%; Component Kind: Standard; Component Type: Standard; Footprint: IND_VISHAY_IHPL4040DZ-01; Pin Count: 2; Value: 10uH; Case: 4040; Mounted: Yes; Socket: No; SMD: Yes; Sense: No; ComponentHeight: 4mm; HelpURL: \\cern.ch\dfs\Applications\Altium\Datasheets\IND_VISHAY_IHLP4040DZ-01.pdf; Author: CERN DEM HF; CreateDate: 31.05.2024; LatestRevisionDate: 31.05.2024
footprint IND_VISHAY_IHPL4040DZ-01
pins: 1, 2

## IND6767_4.7UH_20%_VISHAY_IHLP-6767GZ-11
designator L?, comment 4.7uH
Inductor With Core; Part Number: IND6767_4.7UH_20%_VISHAY_IHLP-6767GZ-11; Part Description: Low Profile, High Current IHLP® Inductor; Manufacturer: VISHAY DALE; Manufacturer Part Number: IHLP6767GZER4R7M11; Power: 30A; Resistance: 3.98mR; Tolerance: ±20%; Component Kind: Standard; Component Type: Standard; Footprint: INDM172170X700N; Pin Count: 2; Value: 4.7uH; Case: 6767; Mounted: Yes; Socket: No; SMD: Yes; Sense: No; ComponentHeight: 7mm; HelpURL: \\cern.ch\dfs\Applications\Altium\Datasheets\IND_VISHAY_IHLP-6767GZ-11.pdf; Author: CERN DEM HF; CreateDate: 04.06.2024; LatestRevisionDate: 04.06.2024
footprint INDM172170X700N
pins: 1, 2

## LED_KINGBRIGHT_KP-2012LSGC
designator VD?, comment Green
LED Green 1C 2A; Part Number: LED_KINGBRIGHT_KP-2012LSGC; Part Description: 2.0x1.2mm Surface Mount Green LED; Manufacturer: KINGBRIGHT; Manufacturer Part Number: KP-2012LSGC; PressFit: No; Bonding: No; Component Kind: Standard; Component Type: Standard; Color: Green; Footprint: LED_KINGBRIGHT_KP-2012LSGC; PackageDescription: 2.0x1.2mm Surface Mount Green LED; Pin Count: 2; Case: 0805; Mounted: Yes; Socket: No; SMD: Yes; Sense: No; ComponentHeight: 1.1mm; HelpURL: \\cern.ch\dfs\Applications\Altium\Datasheets\LED_KINGBRIGHT_KP-2012LSGC.pdf; Author: CERN DEM BC; CreateDate: 09.11.2020; LatestRevisionDate: 09.11.2020
footprint LED_KINGBRIGHT_KP-2012LSGC
pins: 1 C, 2 A
1 alternate drawing of the same symbol

## LED_KINGBRIGHT_KPT-2012SURCK
designator VD?, comment Red
LED Red 1C 2A; Part Number: LED_KINGBRIGHT_KPT-2012SURCK; Part Description: 2.0X1.25mm, SMD Hyper Red Chip LED Lamp, KPT-2012 Series; Manufacturer: KINGBRIGHT; Manufacturer Part Number: KPT-2012SURCK; PressFit: No; Bonding: No; Component Kind: Standard; Component Type: Standard; Color: Red; Footprint: LED_KINGBRIGHT_KPT-2012SURCK; PackageDescription: SMT Hyper Red LED, Case 2012, Body L 2.00mm X  W 1.25mm X H 0.75mm; Pin Count: 2; Case: 0805; Mounted: Yes; Socket: No; SMD: Yes; Sense: No; ComponentHeight: 0.75mm; HelpURL: \\cern.ch\dfs\Applications\Altium\Datasheets\LED_KINGBRIGHT_KPT-2012SURCK.pdf; Author: CERN DEM BC; CreateDate: 06.11.2020; LatestRevisionDate: 06.11.2020
footprint LED_KINGBRIGHT_KPT-2012SURCK
pins: 1 C, 2 A
1 alternate drawing of the same symbol

## LED_KINGBRIGHT_KPT-2012VBC-D
designator VD?, comment Blue
LED Blue 1C 2A; Part Number: LED_KINGBRIGHT_KPT-2012VBC-D; Part Description: 2.0X1.25mm, SMD Blue Chip LED Lamp, KPT-2012 Series; Manufacturer: KINGBRIGHT; Manufacturer Part Number: KPT-2012VBC-D; PressFit: No; Bonding: No; Component Kind: Standard; Component Type: Standard; Color: Blue; Footprint: LED_KINGBRIGHT_KPT-2012VBC-D; PackageDescription: SMT Blue LED, Case 2012, Body L 2.00mm X  W 1.25mm X H 0.75mm; Pin Count: 2; Case: 0805; Mounted: Yes; Socket: No; SMD: Yes; Sense: No; ComponentHeight: 0.75mm; HelpURL: \\cern.ch\dfs\Applications\Altium\Datasheets\LED_KINGBRIGHT_KPT-2012VBC-D.pdf; Author: CERN DEM BC; CreateDate: 27.01.2021; LatestRevisionDate: 27.01.2021
footprint LED_KINGBRIGHT_KPT-2012VBC-D
pins: 1 C, 2 A
1 alternate drawing of the same symbol

## LED_KINGBRIGHT_KPT-2012YC
designator VD?, comment Yellow
LED Yellow 1C 2A; Part Number: LED_KINGBRIGHT_KPT-2012YC; Part Description: 2.0X1.25mm, SMD Yellow Chip LED Lamp, KPT-2012 Series; Manufacturer: KINGBRIGHT; Manufacturer Part Number: KPT-2012YC; PressFit: No; Bonding: No; Component Kind: Standard; Component Type: Standard; Color: Yellow; Footprint: LED_KINGBRIGHT_KPT-2012YC; PackageDescription: SMT Yellow LED, Case 2012, Body L 2.00mm X  W 1.25mm X H 0.75mm; Pin Count: 2; Case: 0805; Mounted: Yes; Socket: No; SMD: Yes; Sense: No; ComponentHeight: 0.75mm; HelpURL: \\cern.ch\dfs\Applications\Altium\Datasheets\LED_KINGBRIGHT_KPT-2012YC.pdf; Author: CERN DEM JMW; CreateDate: 24.08.2021; LatestRevisionDate: 24.08.2021
footprint LED_KINGBRIGHT_KPT-2012YC
pins: 1 C, 2 A
1 alternate drawing of the same symbol

## LEMO_EPG.00.302.NLN
designator X?, comment LEMO 00
Part Number: LEMO_EPG.00.302.NLN; Part Description: Size 00, Elbow Socket (90°) with 2 Female Contacts and Alignment Key (G); Manufacturer Part Number: EPG.00.302.NLN; PressFit: No; SCEM: 09.31.28.007.2; Component Kind: Standard; Component Type: Standard; Footprint: LEMO_EPG.00.302.NLN; Pin Count: 3; Family: LEMO 00; Mounted: Yes; Socket: No; SMD: No; Sense: No; Status: None; Manufacturer: LEMO; ComponentHeight: 7mm; HelpURL: \\cern.ch\dfs\Applications\Altium\Datasheets\LEMO_EPG.00.302.NLN.pdf; Author: CERN DEM JLC; CreateDate: 25.08.2010; LatestRevisionDate: 20.12.2010
footprint LEMO_EPG.00.302.NLN
pins: 1 (io), 2 (io), 3 (io)

## LEMO_EPL.00.250.NTN
designator X?, comment LEMO 00
Part Number: LEMO_EPL.00.250.NTN; Part Description: Size 00, 50 Ohms Coaxial Elbow (90°) socket; Manufacturer Part Number: EPL.00.250.NTN; PressFit: No; Component Kind: Standard; Component Type: Standard; Footprint: LEMO_EPL.00.250.NTN; Pin Count: 2; Family: LEMO 00; Mounted: Yes; Socket: No; SMD: No; Sense: No; Status: Obsolete; Manufacturer: LEMO; ComponentHeight: 7mm; HelpURL: \\cern.ch\dfs\Applications\Altium\Datasheets\LEMO_EPL.00.250.NTN.pdf; Author: CERN DEM JLC; CreateDate: 03.12.2007; LatestRevisionDate: 11.02.2016
footprint LEMO_EPL.00.250.NTN
pins: 1 (io), 2 (io)

## LEMO_EPY.00.250.NTN
designator X?, comment LEMO 00
Dual Female Coax 1-2 Common Shield 3; Part Number: LEMO_EPY.00.250.NTN; Part Description: Size 00, Dual 50 Ohms Coaxial Elbow Sockets (90°); Manufacturer Part Number: EPY.00.250.NTN; PressFit: No; SCEM: 09.46.11.186.0; Component Kind: Standard; Component Type: Standard; Footprint: LEMO_EPY.00.250.NTN; Pin Count: 4; Family: LEMO 00; Mounted: Yes; Socket: No; SMD: No; Sense: No; Status: None; Manufacturer: LEMO; ComponentHeight: 14.8mm; HelpURL: \\cern.ch\dfs\Applications\Altium\Datasheets\LEMO_EPY.00.250.NTN.pdf; Author: CERN DEM JMW; CreateDate: 10.12.2008; LatestRevisionDate: 11.08.2009
footprint LEMO_EPY.00.250.NTN
part A pins: 1 (io), 3 (io)
part B pins: 2 (io), 3 (io)
part A text: BOT
part B text: TOP

## LM3940IMP-3.3/NOPB
designator DA?
3-Terminal Regulator 1=IN 2=GND 3=OUT 4=GND; Part Description: 1A Low Dropout Regulator for 5V to 3.3V Conversion; Manufacturer: TEXAS INSTRUMENTS; PressFit: No; Bonding: No; Part Number: LM3940IMP-3.3/NOPB; Component Kind: Standard; Component Type: Standard; Device: LM3940IMP-3.3/NOPB; Footprint: SOT230P700X180-4N; PackageDescription: SOT223, 2.30mm Pitch; 4 Pin, 3.70mm W X 6.70mm L X 1.80mm H body, IPC Medium Density; Manufacturer Part Number: LM3940IMP-3.3; Pin Count: 4; Case: SOT223; Mounted: Yes; Socket: No; SMD: Yes; Sense: No; ComponentHeight: 1.8mm; HelpURL: \\cern.ch\dfs\Applications\Altium\Datasheets\LM3940IMP-3.3-NOPB.pdf; Author: CERN DEM JLC; CreateDate: 28.03.2011; LatestRevisionDate: 01.06.2022
footprint SOT230P700X180-4N
pins: 1 IN (in), 2 GND (power), 3 OUT (power), 4 GND (power)

## LM21212MH-1
designator DA?
2.95-V To 5.5-V, 12-A, Voltage-Mode Synchronous Buck Regulator with Frequency Synchronization; Manufacturer: TEXAS INSTRUMENTS; PressFit: No; Bonding: No; Part Number: LM21212MH-1; Component Kind: Standard; Component Type: Standard; Device: LM21212MH-1; Footprint: TEXAS_PWP0020AA; PackageDescription: TEXAS Case Style PWP0020AA, SOP, 0.65mm Pitch; 20 Pin, 4.40mm W X 6.50mm L X 1.10mm H body (w/thermal tab 3.4mm X 4.6mm  ), IPC Medium Density; Part Description: 2.95-V To 5.5-V, 12-A, Voltage-Mode Synchronous Buck Regulator with Frequency Synchronization; Manufacturer Part Number: LM21212MH-1; Pin Count: 21; Case: TSSOP20; Mounted: Yes; Socket: No; SMD: Yes; Sense: No; ComponentHeight: 1.1mm; HelpURL: \\cern.ch\dfs\Applications\Altium\Datasheets\LM21212MH-1.pdf; Author: CERN DEM HF; CreateDate: 05.06.2024; LatestRevisionDate: 05.06.2024
footprint TEXAS_PWP0020AA
pins: 1 SYNC (in), 2 SS/TRK (in), 3 EN (in), 4 AVIN (power), 5 PVIN (power), 6 PVIN (power), 7 PVIN (power), 8 PGND (power), 9 PGND (power), 10 PGND (power), 11 SW (out), 12 SW (out), 13 SW (out), 14 SW (out), 15 SW (out), 16 SW (out), 17 PGOOD (out), 18 COMP (out), 19 FB (in), 20 AGND (power), 21 EP (power)

## LM21215AMHX-1
designator DA?
2.95-V To 5.5-V, 12-A, Voltage-Mode Synchronous Buck Regulator with Frequency Synchronization; Part Description: 2.95-V To 5.5-V, 15-A, Voltage-Mode Synchronous Buck Regulator with Frequency Synchronization; Manufacturer: TEXAS INSTRUMENTS; PressFit: No; Bonding: No; Part Number: LM21215AMHX-1; Component Kind: Standard; Component Type: Standard; Device: LM21215AMHX-1; Footprint: TEXAS_PWP0020AA; PackageDescription: TEXAS Case Style PWP0020AA, SOP, 0.65mm Pitch; 20 Pin, 4.40mm W X 6.50mm L X 1.10mm H body (w/thermal tab 3.4mm X 4.6mm  ), IPC Medium Density; Manufacturer Part Number: LM21215AMHX-1; Pin Count: 21; Case: TSSOP20; Mounted: Yes; Socket: No; SMD: Yes; Sense: No; ComponentHeight: 1.1mm; HelpURL: \\cern.ch\dfs\Applications\Altium\Datasheets\LM21215AMHX-1.pdf; Author: CERN DEM HF; CreateDate: 05.06.2024; LatestRevisionDate: 05.06.2024
footprint TEXAS_PWP0020AA
pins: 1 SYNC (in), 2 SS/TRK (in), 3 EN (in), 4 AVIN (power), 5 PVIN (power), 6 PVIN (power), 7 PVIN (power), 8 PGND (power), 9 PGND (power), 10 PGND (power), 11 SW (out), 12 SW (out), 13 SW (out), 14 SW (out), 15 SW (out), 16 SW (out), 17 PGOOD (out), 18 COMP (out), 19 FB (in), 20 AGND (power), 21 EP (power)

## LMC555CM/NOPB
designator DD?
CMOS Timer; Manufacturer: NATIONAL SEMICONDUCTOR; PressFit: No; Bonding: No; Part Number: LMC555CM/NOPB; Component Kind: Standard; Component Type: Standard; Device: LMC555CM/NOPB; Footprint: SOIC127P600X175-8N; PackageDescription: SOIC 8, Pitch 1.27mm, Body 4x5mm, IPC Medium Density; Part Description: CMOS Timer; Manufacturer Part Number: LMC555CM; Pin Count: 8; Case: SOIC8; Mounted: Yes; Socket: No; SMD: Yes; Sense: No; ComponentHeight: 1.75mm; Author: CERN DEM JLC; HelpURL: \\cern.ch\dfs\Applications\Altium\Datasheets\LMC555C-NOPB.pdf; CreateDate: 12.04.2010; LatestRevisionDate: 01.06.2022
footprint SOIC127P600X175-8N
pins: 1 GND (power), 2 ~{TRIG} (in), 3 OUT (out), 4 ~{RESET} (in), 5 CONT (in), 6 THRES (in), 7 DISCH (in), 8 V+ (power)

## LT1963EQ-1.8
designator DA?
1.5A, Fast Transient Response LDO Regulators; Part Description: 1.5A, 1.8V, Fast Transient Response, LDO Regulator; Manufacturer: ANALOG DEVICES; PressFit: No; Bonding: No; Part Number: LT1963EQ-1.8; Component Kind: Standard; Component Type: Standard; Device: LT1963EQ-1.8; Footprint: TO170P1394X457-6N-R900X1060; PackageDescription: D2PAK TO-263, TO, 1.70mm Pitch; 5 Pin, 13.945mm L X 8.89mm W X 4.572mm H body, IPC Medium Density; Manufacturer Part Number: LT1963EQ-1.8; Pin Count: 6; Case: TO-263-5; Mounted: Yes; Socket: No; SMD: Yes; Sense: No; ComponentHeight: 4.57mm; HelpURL: \\cern.ch\dfs\Applications\Altium\Datasheets\LT1963.pdf; Author: CERN DEM HF; CreateDate: 05.06.2024; LatestRevisionDate: 05.06.2024
footprint TO170P1394X457-6N-R900X1060
pins: 1 ~{SHDN} (in), 2 IN (in), 3 GND (power), 4 OUT (power), 5 SENS (in), 6 GND (power)

## LT1963EQ-2.5
designator DA?
1.5A, Fast Transient Response LDO Regulators; Part Description: 1.5A, 2.5V, Fast Transient Response, LDO Regulator; Manufacturer: ANALOG DEVICES; PressFit: No; Bonding: No; Part Number: LT1963EQ-2.5; Component Kind: Standard; Component Type: Standard; Device: LT1963EQ-2.5; Footprint: TO170P1394X457-6N-R900X1060; PackageDescription: D2PAK TO-263, TO, 1.70mm Pitch; 5 Pin, 13.945mm L X 8.89mm W X 4.572mm H body, IPC Medium Density; Manufacturer Part Number: LT1963EQ-2.5; Pin Count: 6; Case: TO-263-5; Mounted: Yes; Socket: No; SMD: Yes; Sense: No; ComponentHeight: 4.57mm; HelpURL: \\cern.ch\dfs\Applications\Altium\Datasheets\LT1963.pdf; Author: CERN DEM HF; CreateDate: 05.06.2024; LatestRevisionDate: 05.06.2024
footprint TO170P1394X457-6N-R900X1060
pins: 1 ~{SHDN} (in), 2 IN (in), 3 GND (power), 4 OUT (power), 5 SENS (in), 6 GND (power)

## LTC2906ITS8
designator DA?
Precision Dual Supply Monitors with One Pin-Selectable Threshold and One Adjustable Input; Manufacturer: LINEAR TECHNOLOGY; PressFit: No; Bonding: No; Part Number: LTC2906ITS8; Component Kind: Standard; Component Type: Standard; Device: LTC2906ITS8; Footprint: SOT65P280X100-8N; PackageDescription: SOT, 0.65mm Pitch; 8 Pin, 1.625mm W X 2.90mm L X 1.00mm H Body, IPC Medium Density; Part Description: Precision Dual Supply Monitors with One Pin-Selectable Threshold and One Adjustable Input; Manufacturer Part Number: LTC2906ITS8; Pin Count: 8; Case: SOT23-8; Mounted: Yes; Socket: No; SMD: Yes; Sense: No; ComponentHeight: 1mm; Author: CERN DEM HF; HelpURL: \\cern.ch\dfs\Applications\Altium\Datasheets\LTC2906.pdf; CreateDate: 05.06.2024; LatestRevisionDate: 05.06.2024
footprint SOT65P280X100-8N
pins: 1 VCC (power), 2 RST (out), 3 ~{RST} (out), 4 GND (power), 5 TOL (in), 6 S1 (in), 7 VADJ (in), 8 V1 (in)

## MOLEX_15-24-9067
designator X?, comment Mini-Fit BMI  (value not drawn)
Connector 6 Male; Part Number: MOLEX_15-24-9067; Part Description: Mini-Fit BMI Header, Dual Row, Right-Angle, with Snap-in Plastic Peg PCB Lock, 6 Circuits, Gold (Au) Plating; Manufacturer: MOLEX; PressFit: No; Component Kind: Standard; Component Type: Standard; Footprint: MOLEX_15-24-9067; Pin Count: 6; Family: Mini-Fit BMI; Mounted: Yes; Socket: No; SMD: No; Sense: No; Status: None; Manufacturer Part Number: 15-24-9067; ComponentHeight: 15mm; HelpURL: \\cern.ch\dfs\Applications\Altium\Datasheets\MOLEX_15-24-9067.pdf; Author: CERN DEM HF; CreateDate: 06.06.2024; LatestRevisionDate: 06.06.2024
footprint MOLEX_15-24-9067
pins: 1 (io), 2 (io), 3 (io), 4 (io), 5 (io), 6 (io)
1 alternate drawing of the same symbol

## NB4L52MNG
designator DD?
2.5 V/3.3 V/5.0 V Differential Data/Clock D Flip-Flop with Reset; Manufacturer: ON SEMICONDUCTOR; PressFit: No; Bonding: No; Part Number: NB4L52MNG; Component Kind: Standard; Component Type: Standard; Device: NB4L52MNG; Footprint: QFN50P300X300X100-17N-S185; PackageDescription: QFN, 0.50mm Pitch, Square; 16 Pin, 3.00mm L X 3.00mm W X 1.00mm H body (w/Thermal Tab 1.85 X 1.85mm), IPC Medium Density; Part Description: 2.5 V/3.3 V/5.0 V Differential Data/Clock D Flip-Flop with Reset; Manufacturer Part Number: NB4L52MN; Pin Count: 16; Case: QFN16; Mounted: Yes; Socket: No; SMD: Yes; Sense: No; ComponentHeight: 1mm; Author: CERN DEM MR; HelpURL: \\cern.ch\dfs\Applications\Altium\Datasheets\NB4L52MNG.pdf; CreateDate: 15.01.2016; LatestRevisionDate: 04.04.2022
footprint QFN50P300X300X100-17N-S185
pins: 1 VTD (in), 2 D (in), 3 ~{D} (in), 4 ~{VTD} (in), 5 VTCLK (in), 6 CLK (in), 7 ~{CLK} (in), 8 ~{VTCLK} (in), 9 VEE (power), 10 ~{Q} (out), 11 Q (out), 12 VCC (power), 13 VTR (in), 14 R (in), 15 ~{R} (in), 16 ~{VTR} (in), 17 EP (power)

## OSC_40MHZ_IQD_LFSPXO018042
designator ZQ?, comment 40MHz
Oscillator 4 pins 1=E 2=GND 3=OUT 4=+Vs; Part Number: OSC_40MHZ_IQD_LFSPXO018042; Part Description: 3.3V, ±50ppm, 50pF, 0..70°C, HCMOS Surface Mount Clock Oscillator (CFPS-73 Series); Manufacturer: IQD FREQUENCY PRODUCTS; Manufacturer Part Number: LFSPXO018042; PressFit: No; Bonding: No; Component Kind: Standard; Component Type: Standard; Footprint: OSC_IQD_CFPS-73; PackageDescription: Oscillator, Side Concave, 5.08mm Pitch, 4 Pins, 5.00mm L X 7.00mm W X 1.40mm H, CFPS-73 Series; Value: 40MHz; Pin Count: 4; Mounted: Yes; Socket: No; SMD: Yes; Sense: No; ComponentHeight: 1.4mm; HelpURL: \\cern.ch\dfs\Applications\Altium\Datasheets\OSC_IQD_LFSPXO018042.pdf; Author: CERN DEM JLC; CreateDate: 22.08.2011; LatestRevisionDate: 03.11.2016
footprint OSC_IQD_CFPS-73
pins: 1 E (in), 2 GND (power), 3 OUT (out), 4 +Vs (power)